# EAGLE library part 1-1734592-2 (library CON-FFC)
12 Position FPC Connector Contacts, Bottom 0.020" (0.50mm) Surface Mount, Right Angle Datasheet <http://www.te.com/commerce/DocumentDelivery/DDEController?Action=srchrtrv&DocNm=1734592&DocType=Customer+Drawing&DocLang=English>
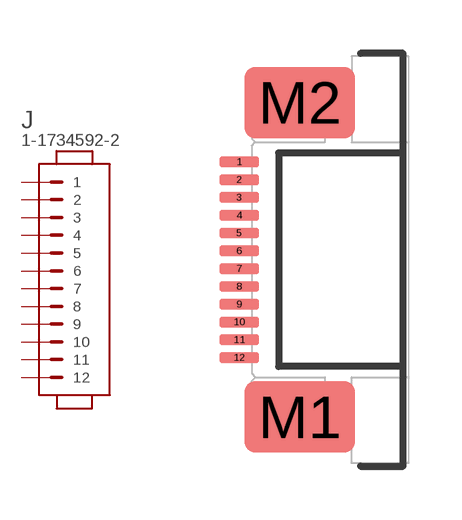
[diagram p3: symbol with the pads of CON-FPC-12-BOT-1-1734592-2; footprint CON-FPC-12-BOT-1-1734592-2]

Designator prefix J

## 1-1734592-2 (CONTACT: Bottom; DATASHEET: http://www.te.com/commerce/DocumentDelivery/DDEController?Action=srchrtrv&DocNm=1734592&DocType=Customer+Drawing&DocLang=English; DESC: CONN FPC BOTTOM 12POS 0.50MM R/A; FEAT: Slide Lock ZIF; MANF: TE Connectivity AMP Connectors; MFPN: 1-1734592-2; PARTNO: 29-100864-00; PITCH: 0.5mm; RATE: 0.5A; STATUS: Active; TEMP: -40°C ~ 85°C; TYPE: FPC, SurfaceMount, Right Angle)  [CON-FPC-12-BOT-1-1734592-2]
1  1  pas
2  2  pas
3  3  pas
4  4  pas
5  5  pas
6  6  pas
7  7  pas
8  8  pas
9  9  pas
10  10  pas
11  11  pas
12  12  pas

## Footprint CON-FPC-12-BOT-1-1734592-2 (pad centres in mm)
12 Position FPC Connector Contacts, Bottom 0.020" (0.50mm) Surface Mount, Right Angle Datasheet <http://www.te.com/commerce/DocumentDelivery/DDEController?Action=srchrtrv&DocNm=1734592&DocType=Customer+Drawing&DocLang=English>
smd 1.1 x 0.3: 1 0,2.75; 2 0,2.25; 3 0,1.75; 4 0,1.25; 5 0,0.75; 6 0,0.25; 7 0,-0.25; 8 0,-0.75; 9 0,-1.25; 10 0,-1.75; 11 0,-2.25; 12 0,-2.75
smd 3.1 x 2: M1 1.7,-4.42; M2 1.7,4.42